# Altium footprint library Heaterbaordsidepin.PcbLib: 8 footprints
Each footprint in its own frame and in the unit in brackets; x right, y up, seen from the top. Pads: shape width x height; smd on the part's side, far side on the other; paste and mask are expansions set on the pad; w line width, h text height; cw(c..) or ccw(c..) is an arc to the next point about the centre after c.
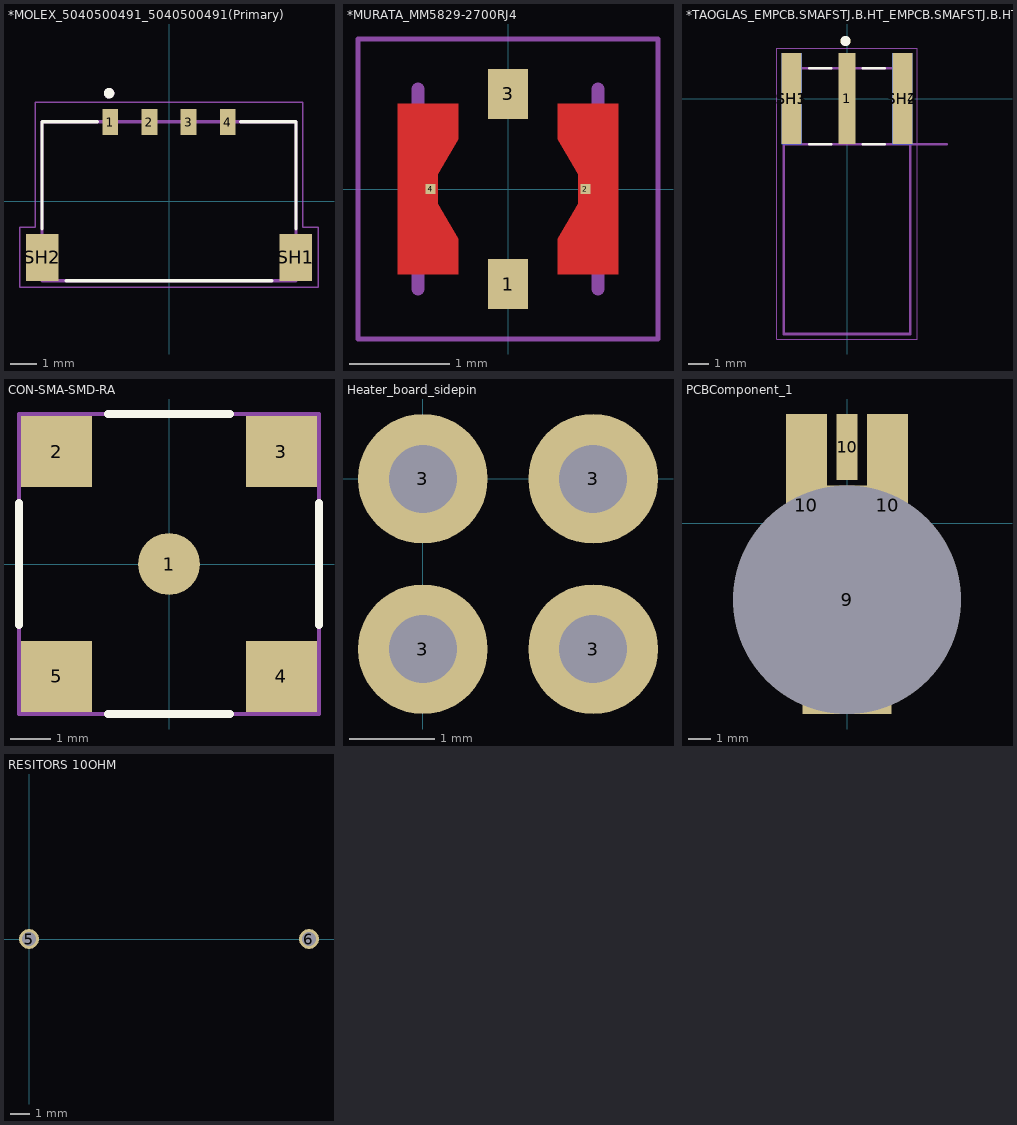
[diagram p0: the footprints below, top view; thin cyan lines are the x and y axes]

## *MOLEX_5040500491_5040500491(Primary) [mm]
pads (6):
  rect 0.6x1 smd: 1(-2.25,3.04) 2(-0.75,3.04) 3(0.75,3.04) 4(2.25,3.04)
  rect 1.25x1.8 smd: SH1(4.855,-2.15) SH2(-4.855,-2.15)
Top Overlay:
  circle w0.2: c-2.3,4.15 r0.1
  lines w0.127: -4.875,-1.05 -4.875,3.05 -2.75,3.05 ; -3.95,-3.05 3.95,-3.05 ; 2.75,3.05 4.875,3.05 4.875,-1.05
Mechanical 4:
  circle w0.2: c-2.3,4.15 r0.1
  circle w0.2: c-2.3,4.15 r0.1
  lines w0.127: -4.875,-3.05 -4.875,3.05 ; -4.875,-3.05 4.875,-3.05 ; -4.875,-3.05 -4.875,3.05 ; -4.875,-3.05 4.875,-3.05 ; -4.875,3.05 4.875,3.05 ; -4.875,3.05 4.875,3.05 ; 4.875,-3.05 4.875,3.05 ; 4.875,-3.05 4.875,3.05
Mechanical 16:
  lines w0.05: -5.73,-3.3 -5.73,-1 -5.125,-1 -5.125,3.8 5.125,3.8 5.125,-1 5.73,-1 5.73,-3.3 -5.73,-3.3
3D body "5040500491.stp": height 1.98, standoff -0.02, extent -5.275,-3.1 5.275,3.34

## *MURATA_MM5829-2700RJ4 [mm]
pads (4):
  rect 0.4x0.5 smd: 1(0,-0.95) 3(0,0.95)
  rect 0.1x0.1 smd: 2(0.775,0) 4(-0.775,0)
Top Layer:
  region: 0.5,-0.5 0.5,-0.85 1.1,-0.85 1.1,0.85 0.5,0.85 0.5,0.5 0.7,0.15 0.7,-0.15
  region: -0.5,0.5 -0.5,0.85 -1.1,0.85 -1.1,-0.85 -0.5,-0.85 -0.5,-0.5 -0.7,-0.15 -0.7,0.15
Top Paste:
  region: -1.101,0.7 -0.7,0.7 -0.7,-0.701 -1.101,-0.701
  region: 0.701,0.7 1.1,0.7 1.1,-0.701 0.701,-0.701
  region: -0.15,1.1 0.15,1.1 0.15,0.75 -0.15,0.75
  region: -0.15,-0.75 0.15,-0.75 0.15,-1.102 -0.15,-1.102
Top Solder:
  region: -1.102,0.85 -0.45,0.85 -0.45,-0.852 -1.102,-0.852
  region: 0.45,0.85 1.1,0.85 1.1,-0.851 0.45,-0.851
  region: -0.25,1.2 0.25,1.2 0.25,0.651 -0.25,0.651
  region: -0.25,-0.65 0.25,-0.65 0.25,-1.201 -0.25,-1.201
Mechanical 4:
  lines w0.127: -0.9,-1 -0.9,1 -0.9,-1 ; 0.9,-1 0.9,1 0.9,-1
Mechanical 16:
  lines w0.05: -1.5,-1.5 -1.5,1.5 1.5,1.5 1.5,-1.5 -1.5,-1.5

## *TAOGLAS_EMPCB.SMAFSTJ.B.HT_EMPCB.SMAFSTJ.B.HT(Primary) [mm]
pads (5):
  rect 0.85x4.56 smd: 1(0,0)
  rect 1x4.56 smd: SH1(-2.77,0) SH2(2.77,0)
  rect 1x4.56 smd far side: SH3(-2.77,0) SH4(2.77,0)
Top Overlay:
  circle w0.3: c-0.073,2.888 r0.1
  lines w0.127: -1.9,-2.28 -0.8,-2.28 ; -1.9,1.52 -0.8,1.52 ; 0.8,-2.28 1.9,-2.28 ; 0.8,1.52 1.9,1.52
Mechanical 4:
  lines w0.05: -3.52,-12.03 -3.52,2.53 ; -3.52,-12.03 3.52,-12.03 ; -3.52,-12.03 -3.52,2.53 ; -3.52,-12.03 3.52,-12.03 ; -3.52,2.53 3.52,2.53 ; -3.52,2.53 3.52,2.53 ; 3.52,-12.03 3.52,2.53 ; 3.52,-12.03 3.52,2.53
  lines w0.127: -3.175,-11.78 3.175,-11.78 ; -3.175,-11.78 -3.175,-2.28 ; -3.175,-11.78 3.175,-11.78 ; -3.175,-11.78 -3.175,-2.28 ; -3.175,-2.28 -3.175,1.52 ; -3.175,-2.28 5,-2.28 -3.175,-2.28 ; -3.175,-2.28 -3.175,1.52 ; -3.175,1.52 3.175,1.52 ; -3.175,1.52 3.175,1.52 ; 3.175,-11.78 3.175,1.52 ; 3.175,-11.78 3.175,1.52
Mechanical 16:
  lines w0.05: -3.52,-12.03 3.52,-12.03 3.52,2.53 -3.52,2.53 -3.52,-12.03
3D body "EMPCB.SMAFSTJ.B.HT--3DModel-STEP-86487.STEP": height 3.69, standoff -2.69, extent -3.191,-11.85 3.191,1.45

## CON-SMA-SMD-RA [mil] "Connector, SMA Female, 5-Lead, SM, Right-Angle, Body 7x7mm"
height 442.91
pads (5):
  round 60 smd: 1(0,0)
  rect 68.5x68.5 smd: 2(-109.25,109.25) 3(109.25,109.25) 4(109.25,-109.25) 5(-109.25,-109.25)
Top Overlay:
  lines w7.87: -145.67,-59.25 -145.67,59.25 ; -59.25,-145.67 59.25,-145.67 ; -59.25,145.67 59.25,145.67 ; 145.67,-59.25 145.67,59.25
Mechanical 13:
  lines w3.94: -145.67,-145.67 -145.67,145.67 145.67,145.67 145.67,-145.67 -145.67,-145.67
Mechanical 15:
  lines w3.94: -19.69,0 19.68,0 ; 0,-19.68 0,19.69

## Heater_board_sidepin [mm]
pads (4):
  round 1.524 hole 0.8: 3(0,-2) 3(0,0) 3(2,-2) 3(2,0)
3D body "878330431.stp": height 6.35, standoff -2.11, extent -2.332,-2.293 4.318,6.357

## PCBComponent_1 [mm]
pads (4):
  rect 3.9x10 hole 10 square unplated: 9(0,-3.344)
  rect 1.8x8 smd: 10(-1.778,0.793) 10(1.778,0.793)
  rect 0.94x2.9 smd: 10(0,3.344)

## RESITORS 10OHM [mm]
pads (2):
  round 1 hole 0.7: 5(0,0) 6(14,0)

## SF1621-60029 [mm]
3D body "SF1621-60029.STEP": height 0, standoff -11.25, extent -2.68,-5.588 4.458,4.572